# Altium integrated library LM317M.IntLib: 1 symbol
Pins are listed as number, name and electrical type; pins without a type are passive.

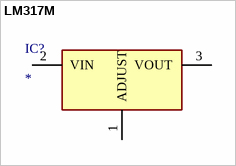
[diagram p0: symbol LM317M]

## LM317M
designator IC?
Integrated Circuit; Manufacturer_Name: STMicroelectronics; Manufacturer_Part_Number: LM317MDT; Datasheet Link: https://www.mouser.com/datasheet/2/389/stmicroelectronics_cd00000549-1204361.pdf; Height: 2.4mm; Arrow Part Number: LM317MDT; Mouser Part Number: 511-LM317MDT; Mouser Price/Stock: https://www.mouser.co.uk/ProductDetail/STMicroelectronics/LM317MDT?qs=K4DpzJ20gDGgV35U9QPONQ%3D%3D
footprint LM317MDT
pins: 1 ADJUST, 2 VIN, 3 VOUT